# Altium footprint library TCA9548APWR.PcbLib: 3 footprints
Each footprint in its own frame and in the unit in brackets; x right, y up, seen from the top. Pads: shape width x height; smd on the part's side, far side on the other; paste and mask are expansions set on the pad; w line width, h text height; cw(c..) or ccw(c..) is an arc to the next point about the centre after c.
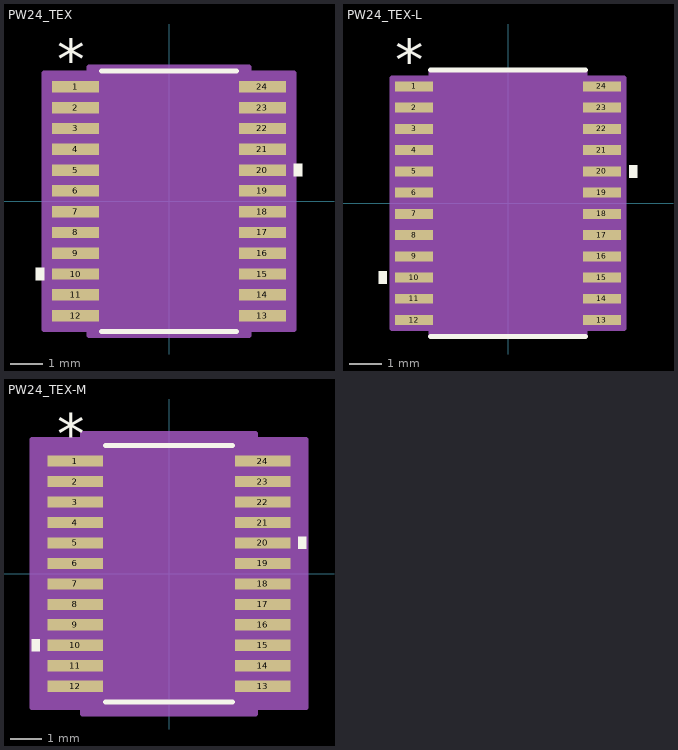
[diagram p0: the footprints below, top view; thin cyan lines are the x and y axes]

## PW24_TEX [mm]
pads (24):
  rect 1.462x0.355 smd paste+0 mask+0: 1(-2.921,3.575) 2(-2.921,2.925) 3(-2.921,2.275) 4(-2.921,1.625) 5(-2.921,0.975) 6(-2.921,0.325) 7(-2.921,-0.325) 8(-2.921,-0.975) 9(-2.921,-1.625) 10(-2.921,-2.275) 11(-2.921,-2.925) 12(-2.921,-3.575) 13(2.921,-3.575) 14(2.921,-2.925) 15(2.921,-2.275) 16(2.921,-1.625) 17(2.921,-0.975) 18(2.921,-0.325) 19(2.921,0.325) 20(2.921,0.975) 21(2.921,1.625) 22(2.921,2.275) 23(2.921,2.925) 24(2.921,3.575)
Top Overlay:
  region: -3.906,-2.084 -4.16,-2.084 -4.16,-2.465 -3.906,-2.465
  region: 3.906,1.165 4.16,1.165 4.16,0.784 3.906,0.784
  lines w0.152: -2.116,-4.077 2.116,-4.077 ; -2.116,4.077 2.116,4.077
  text "*" at -3.492,3.803 h1.27
Mechanical 13:
  lines w0.025: -0.305,3.95 ccw(c0,3.95) 0.305,3.95 ; -3.302,-3.727 -3.302,-3.423 -2.248,-3.423 -2.248,-3.727 -3.302,-3.727 ; -3.302,-3.077 -3.302,-2.773 -2.248,-2.773 -2.248,-3.077 -3.302,-3.077 ; -3.302,-2.427 -3.302,-2.123 -2.248,-2.123 -2.248,-2.427 -3.302,-2.427 ; -3.302,-1.777 -3.302,-1.473 -2.248,-1.473 -2.248,-1.777 -3.302,-1.777 ; -3.302,-1.127 -3.302,-0.823 -2.248,-0.823 -2.248,-1.127 -3.302,-1.127 ; -3.302,-0.477 -3.302,-0.173 -2.248,-0.173 -2.248,-0.477 -3.302,-0.477 ; -3.302,0.173 -3.302,0.477 -2.248,0.477 -2.248,0.173 -3.302,0.173 ; -3.302,0.823 -3.302,1.127 -2.248,1.127 -2.248,0.823 -3.302,0.823 ; -3.302,1.473 -3.302,1.777 -2.248,1.777 -2.248,1.473 -3.302,1.473 ; -3.302,2.123 -3.302,2.427 -2.248,2.427 -2.248,2.123 -3.302,2.123 ; -3.302,2.773 -3.302,3.077 -2.248,3.077 -2.248,2.773 -3.302,2.773 ; -3.302,3.423 -3.302,3.727 -2.248,3.727 -2.248,3.423 -3.302,3.423 ; -2.248,-3.95 2.248,-3.95 2.248,3.95 -2.248,3.95 -2.248,-3.95 ; 2.248,-3.727 2.248,-3.423 3.302,-3.423 3.302,-3.727 2.248,-3.727 ; 2.248,-3.077 2.248,-2.773 3.302,-2.773 3.302,-3.077 2.248,-3.077 ; 2.248,-2.427 2.248,-2.123 3.302,-2.123 3.302,-2.427 2.248,-2.427 ; 2.248,-1.777 2.248,-1.473 3.302,-1.473 3.302,-1.777 2.248,-1.777 ; 2.248,-1.127 2.248,-0.823 3.302,-0.823 3.302,-1.127 2.248,-1.127 ; 2.248,-0.477 2.248,-0.173 3.302,-0.173 3.302,-0.477 2.248,-0.477 ; 2.248,0.173 2.248,0.477 3.302,0.477 3.302,0.173 2.248,0.173 ; 2.248,0.823 2.248,1.127 3.302,1.127 3.302,0.823 2.248,0.823 ; 2.248,1.473 2.248,1.777 3.302,1.777 3.302,1.473 2.248,1.473 ; 2.248,2.123 2.248,2.427 3.302,2.427 3.302,2.123 2.248,2.123 ; 2.248,2.773 2.248,3.077 3.302,3.077 3.302,2.773 2.248,2.773 ; 2.248,3.423 2.248,3.727 3.302,3.727 3.302,3.423 2.248,3.423
  text "*" at -2.184,2.603 h1.27
Mechanical 15:
  region: -2.502,-4.006 -3.906,-4.006 -3.906,4.006 -2.502,4.006 -2.502,4.204 2.502,4.204 2.502,4.006 3.906,4.006 3.906,-4.006 2.502,-4.006 2.502,-4.204 -2.502,-4.204
  lines w0.152: -3.906,-4.006 -3.906,4.006 -2.502,4.006 -2.502,4.204 2.502,4.204 2.502,4.006 3.906,4.006 3.906,-4.006 2.502,-4.006 2.502,-4.204 -2.502,-4.204 -2.502,-4.006 -3.906,-4.006
3D body "PW24_TEX.step": height 1.2, standoff 0, extent -3.302,-3.95 3.302,3.95

## PW24_TEX-L [mm]
pads (24):
  rect 1.162x0.305 smd paste+0 mask+0: 1(-2.871,3.575) 2(-2.871,2.925) 3(-2.871,2.275) 4(-2.871,1.625) 5(-2.871,0.975) 6(-2.871,0.325) 7(-2.871,-0.325) 8(-2.871,-0.975) 9(-2.871,-1.625) 10(-2.871,-2.275) 11(-2.871,-2.925) 12(-2.871,-3.575) 13(2.871,-3.575) 14(2.871,-2.925) 15(2.871,-2.275) 16(2.871,-1.625) 17(2.871,-0.975) 18(2.871,-0.325) 19(2.871,0.325) 20(2.871,0.975) 21(2.871,1.625) 22(2.871,2.275) 23(2.871,2.925) 24(2.871,3.575)
Top Overlay:
  region: -3.706,-2.084 -3.96,-2.084 -3.96,-2.465 -3.706,-2.465
  region: 3.706,1.165 3.96,1.165 3.96,0.784 3.706,0.784
  lines w0.152: -2.375,-4.077 2.375,-4.077 ; -2.375,4.077 2.375,4.077
  text "*" at -3.443,3.753 h1.27
  text ".Designator" at -3.492,-0.635 h1.27
Mechanical 13:
  lines w0.025: -0.305,3.95 ccw(c0,3.95) 0.305,3.95 ; -3.302,-3.727 -3.302,-3.423 -2.248,-3.423 -2.248,-3.727 -3.302,-3.727 ; -3.302,-3.077 -3.302,-2.773 -2.248,-2.773 -2.248,-3.077 -3.302,-3.077 ; -3.302,-2.427 -3.302,-2.123 -2.248,-2.123 -2.248,-2.427 -3.302,-2.427 ; -3.302,-1.777 -3.302,-1.473 -2.248,-1.473 -2.248,-1.777 -3.302,-1.777 ; -3.302,-1.127 -3.302,-0.823 -2.248,-0.823 -2.248,-1.127 -3.302,-1.127 ; -3.302,-0.477 -3.302,-0.173 -2.248,-0.173 -2.248,-0.477 -3.302,-0.477 ; -3.302,0.173 -3.302,0.477 -2.248,0.477 -2.248,0.173 -3.302,0.173 ; -3.302,0.823 -3.302,1.127 -2.248,1.127 -2.248,0.823 -3.302,0.823 ; -3.302,1.473 -3.302,1.777 -2.248,1.777 -2.248,1.473 -3.302,1.473 ; -3.302,2.123 -3.302,2.427 -2.248,2.427 -2.248,2.123 -3.302,2.123 ; -3.302,2.773 -3.302,3.077 -2.248,3.077 -2.248,2.773 -3.302,2.773 ; -3.302,3.423 -3.302,3.727 -2.248,3.727 -2.248,3.423 -3.302,3.423 ; -2.248,-3.95 2.248,-3.95 2.248,3.95 -2.248,3.95 -2.248,-3.95 ; 2.248,-3.727 2.248,-3.423 3.302,-3.423 3.302,-3.727 2.248,-3.727 ; 2.248,-3.077 2.248,-2.773 3.302,-2.773 3.302,-3.077 2.248,-3.077 ; 2.248,-2.427 2.248,-2.123 3.302,-2.123 3.302,-2.427 2.248,-2.427 ; 2.248,-1.777 2.248,-1.473 3.302,-1.473 3.302,-1.777 2.248,-1.777 ; 2.248,-1.127 2.248,-0.823 3.302,-0.823 3.302,-1.127 2.248,-1.127 ; 2.248,-0.477 2.248,-0.173 3.302,-0.173 3.302,-0.477 2.248,-0.477 ; 2.248,0.173 2.248,0.477 3.302,0.477 3.302,0.173 2.248,0.173 ; 2.248,0.823 2.248,1.127 3.302,1.127 3.302,0.823 2.248,0.823 ; 2.248,1.473 2.248,1.777 3.302,1.777 3.302,1.473 2.248,1.473 ; 2.248,2.123 2.248,2.427 3.302,2.427 3.302,2.123 2.248,2.123 ; 2.248,2.773 2.248,3.077 3.302,3.077 3.302,2.773 2.248,2.773 ; 2.248,3.423 2.248,3.727 3.302,3.727 3.302,3.423 2.248,3.423
  text ".Designator" at -3.492,-0.635 h1.27
  text "*" at -2.184,2.603 h1.27
Mechanical 15:
  region: -2.349,-3.829 -3.554,-3.829 -3.554,3.829 -2.349,3.829 -2.349,4.051 2.349,4.051 2.349,3.829 3.554,3.829 3.554,-3.829 2.349,-3.829 2.349,-4.051 -2.349,-4.051
  lines w0.152: -3.554,-3.829 -3.554,3.829 -2.349,3.829 -2.349,4.051 2.349,4.051 2.349,3.829 3.554,3.829 3.554,-3.829 2.349,-3.829 2.349,-4.051 -2.349,-4.051 -2.349,-3.829 -3.554,-3.829
3D body "PW24_TEX.step": height 1.2, standoff 0, extent -3.302,-3.95 3.302,3.95

## PW24_TEX-M [mm]
pads (24):
  rect 1.762x0.355 smd paste+0 mask+0: 1(-2.971,3.575) 2(-2.971,2.925) 3(-2.971,2.275) 4(-2.971,1.625) 5(-2.971,0.975) 6(-2.971,0.325) 7(-2.971,-0.325) 8(-2.971,-0.975) 9(-2.971,-1.625) 10(-2.971,-2.275) 11(-2.971,-2.925) 12(-2.971,-3.575) 13(2.971,-3.575) 14(2.971,-2.925) 15(2.971,-2.275) 16(2.971,-1.625) 17(2.971,-0.975) 18(2.971,-0.325) 19(2.971,0.325) 20(2.971,0.975) 21(2.971,1.625) 22(2.971,2.275) 23(2.971,2.925) 24(2.971,3.575)
Top Overlay:
  region: -4.106,-2.084 -4.36,-2.084 -4.36,-2.465 -4.106,-2.465
  region: 4.106,1.165 4.36,1.165 4.36,0.784 4.106,0.784
  lines w0.152: -2.016,-4.077 2.016,-4.077 ; -2.016,4.077 2.016,4.077
  text "*" at -3.542,3.803 h1.27
  text ".Designator" at -3.492,-0.635 h1.27
Mechanical 13:
  lines w0.025: -0.305,3.95 ccw(c0,3.95) 0.305,3.95 ; -3.302,-3.727 -3.302,-3.423 -2.248,-3.423 -2.248,-3.727 -3.302,-3.727 ; -3.302,-3.077 -3.302,-2.773 -2.248,-2.773 -2.248,-3.077 -3.302,-3.077 ; -3.302,-2.427 -3.302,-2.123 -2.248,-2.123 -2.248,-2.427 -3.302,-2.427 ; -3.302,-1.777 -3.302,-1.473 -2.248,-1.473 -2.248,-1.777 -3.302,-1.777 ; -3.302,-1.127 -3.302,-0.823 -2.248,-0.823 -2.248,-1.127 -3.302,-1.127 ; -3.302,-0.477 -3.302,-0.173 -2.248,-0.173 -2.248,-0.477 -3.302,-0.477 ; -3.302,0.173 -3.302,0.477 -2.248,0.477 -2.248,0.173 -3.302,0.173 ; -3.302,0.823 -3.302,1.127 -2.248,1.127 -2.248,0.823 -3.302,0.823 ; -3.302,1.473 -3.302,1.777 -2.248,1.777 -2.248,1.473 -3.302,1.473 ; -3.302,2.123 -3.302,2.427 -2.248,2.427 -2.248,2.123 -3.302,2.123 ; -3.302,2.773 -3.302,3.077 -2.248,3.077 -2.248,2.773 -3.302,2.773 ; -3.302,3.423 -3.302,3.727 -2.248,3.727 -2.248,3.423 -3.302,3.423 ; -2.248,-3.95 2.248,-3.95 2.248,3.95 -2.248,3.95 -2.248,-3.95 ; 2.248,-3.727 2.248,-3.423 3.302,-3.423 3.302,-3.727 2.248,-3.727 ; 2.248,-3.077 2.248,-2.773 3.302,-2.773 3.302,-3.077 2.248,-3.077 ; 2.248,-2.427 2.248,-2.123 3.302,-2.123 3.302,-2.427 2.248,-2.427 ; 2.248,-1.777 2.248,-1.473 3.302,-1.473 3.302,-1.777 2.248,-1.777 ; 2.248,-1.127 2.248,-0.823 3.302,-0.823 3.302,-1.127 2.248,-1.127 ; 2.248,-0.477 2.248,-0.173 3.302,-0.173 3.302,-0.477 2.248,-0.477 ; 2.248,0.173 2.248,0.477 3.302,0.477 3.302,0.173 2.248,0.173 ; 2.248,0.823 2.248,1.127 3.302,1.127 3.302,0.823 2.248,0.823 ; 2.248,1.473 2.248,1.777 3.302,1.777 3.302,1.473 2.248,1.473 ; 2.248,2.123 2.248,2.427 3.302,2.427 3.302,2.123 2.248,2.123 ; 2.248,2.773 2.248,3.077 3.302,3.077 3.302,2.773 2.248,2.773 ; 2.248,3.423 2.248,3.727 3.302,3.727 3.302,3.423 2.248,3.423
  text ".Designator" at -3.492,-0.635 h1.27
  text "*" at -2.184,2.603 h1.27
Mechanical 15:
  region: -2.756,-4.26 -4.36,-4.26 -4.36,4.26 -2.756,4.26 -2.756,4.458 2.756,4.458 2.756,4.26 4.36,4.26 4.36,-4.26 2.756,-4.26 2.756,-4.458 -2.756,-4.458
  lines w0.152: -4.36,-4.26 -4.36,4.26 -2.756,4.26 -2.756,4.458 2.756,4.458 2.756,4.26 4.36,4.26 4.36,-4.26 2.756,-4.26 2.756,-4.458 -2.756,-4.458 -2.756,-4.26 -4.36,-4.26
3D body "PW24_TEX.step": height 1.2, standoff 0, extent -3.302,-3.95 3.302,3.95